# EAGLE library part MINI-MOD (library parts)
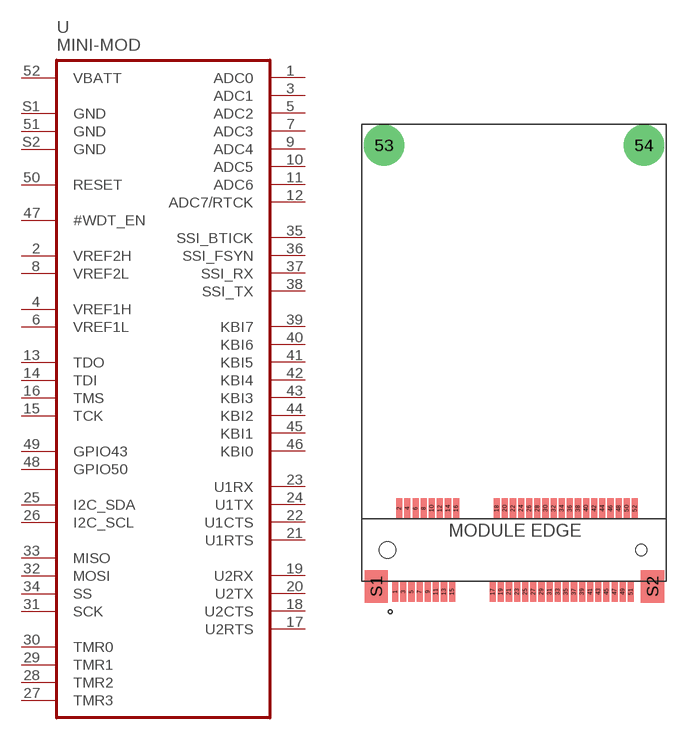
[diagram p20: symbol with the pads of MINI-MODULE; footprint MINI-MODULE]

Designator prefix U

## MINI-MOD  [MINI-MODULE]
1  ADC0
2  VREF2H
3  ADC1
4  VREF1H
5  ADC2
6  VREF1L
7  ADC3
8  VREF2L
9  ADC4
10  ADC5
11  ADC6
12  ADC7/RTCK
13  TDO
14  TDI
15  TCK
16  TMS
17  U2RTS
18  U2CTS
19  U2RX
20  U2TX
21  U1RTS
22  U1CTS
23  U1RX
24  U1TX
25  I2C_SDA
26  I2C_SCL
27  TMR3
28  TMR2
29  TMR1
30  TMR0
31  SCK
32  MOSI
33  MISO
34  SS
35  SSI_BTICK
36  SSI_FSYN
37  SSI_RX
38  SSI_TX
39  KBI7
40  KBI6
41  KBI5
42  KBI4
43  KBI3
44  KBI2
45  KBI1
46  KBI0
47  #WDT_EN
48  GPIO50
49  GPIO43
50  RESET
51  GND
52  VBATT
S1  GND
S2  GND

## Footprint MINI-MODULE (pad centres in mm)
smd 0.6 x 2: 1 -11.6,-4.1; 2 -11.2,4.1; 3 -10.8,-4.1; 4 -10.4,4.1; 5 -10,-4.1; 6 -9.6,4.1; 7 -9.2,-4.1; 8 -8.8,4.1; 9 -8.4,-4.1; 10 -8,4.1; 11 -7.6,-4.1; 12 -7.2,4.1; 13 -6.8,-4.1; 14 -6.4,4.1; 15 -6,-4.1; 16 -5.6,4.1; 17 -2,-4.1; 18 -1.6,4.1; 19 -1.2,-4.1; 20 -0.8,4.1; 21 -0.4,-4.1; 22 0,4.1; 23 0.4,-4.1; 24 0.8,4.1; 25 1.2,-4.1; 26 1.6,4.1; 27 2,-4.1; 28 2.4,4.1; 29 2.8,-4.1; 30 3.2,4.1; 31 3.6,-4.1; 32 4,4.1; 33 4.4,-4.1; 34 4.8,4.1; 35 5.2,-4.1; 36 5.6,4.1; 37 6,-4.1; 38 6.4,4.1; 39 6.8,-4.1; 40 7.2,4.1; 41 7.6,-4.1; 42 8,4.1; 43 8.4,-4.1; 44 8.8,4.1; 45 9.2,-4.1; 46 9.6,4.1; 47 10,-4.1; 48 10.4,4.1; 49 10.8,-4.1; 50 11.2,4.1; 51 11.6,-4.1; 52 12,4.1
drill 2.6 pad 4 round: 53 -12.7,39.862; 54 12.9,39.862
smd 2.3 x 3.2: S1 -13.473,-3.6; S2 13.727,-3.6
hole 1.1 at 12.627,0
hole 1.6 at -12.373,0